# EAGLE library part PA69 (library opamps)
PA69: High voltage power opamp (Apex) ±100V, ±50mA, 9pA bias 25mV offset, 1MHz UGF
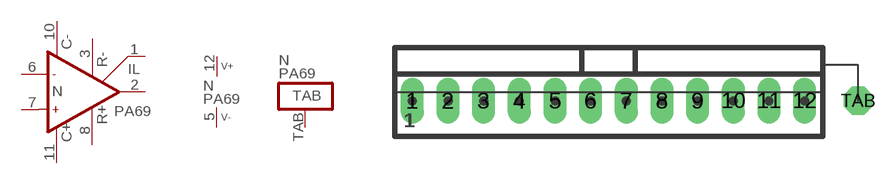
[diagram p249: symbol with the pads of SIPEU; footprint SIPEU]

Designator prefix N; gates A=OP_PA86 P=V+- T=TAB

## PA69  [SIPEU]
1  A:IL
2  A:OUT  out
3  A:R-
5  P:V-  pwr
6  A:IN-  in
7  A:IN+  in
8  A:R+
10  A:C-
11  A:C+
12  P:V+  pwr
TAB  T:TAB

## Footprint SIPEU (pad centres in mm)
SIP-EU, vertical mounting Power package, 12 pins + tab (Apex)
drill 0.889 pad 1.651 long: 1 -13.97,0; 2 -11.43,0; 3 -8.89,0; 4 -6.35,0; 5 -3.81,0; 6 -1.27,0; 7 1.27,0; 8 3.81,0; 9 6.35,0; 10 8.89,0; 11 11.43,0; 12 13.97,0
drill 0.889 pad 2.032 octagon: TAB 17.78,0